# EAGLE library part MCP2551 (library HAVRM)
MCP2551 High-Speed CAN Transceiver
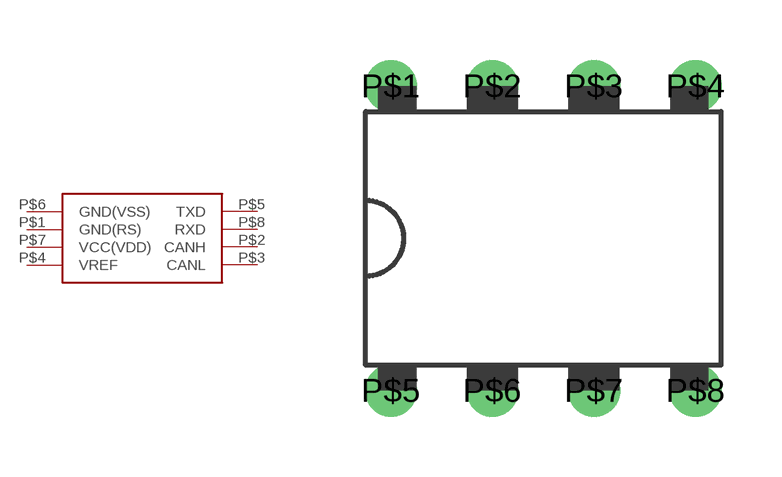
[diagram p1: symbol with the pads of PDIP/SOIC_8; footprint PDIP/SOIC_8]

Designator prefix -

## MCP2551  [PDIP/SOIC_8]
P$1  GND(RS)
P$2  CANH
P$3  CANL
P$4  VREF
P$5  TXD
P$6  GND(VSS)
P$7  VCC(VDD)
P$8  RXD

## Footprint PDIP/SOIC_8 (pad centres in mm)
DIP 4*2 PIN MICROCHIP package
drill 0.8: P$1 0,7.62; P$2 2.54,7.62; P$3 5.08,7.62; P$4 7.62,7.62; P$5 0,0; P$6 2.54,0; P$7 5.08,0; P$8 7.62,0